# EAGLE library part 74*244A (library Digilent)
Octal Tri-State Buffer
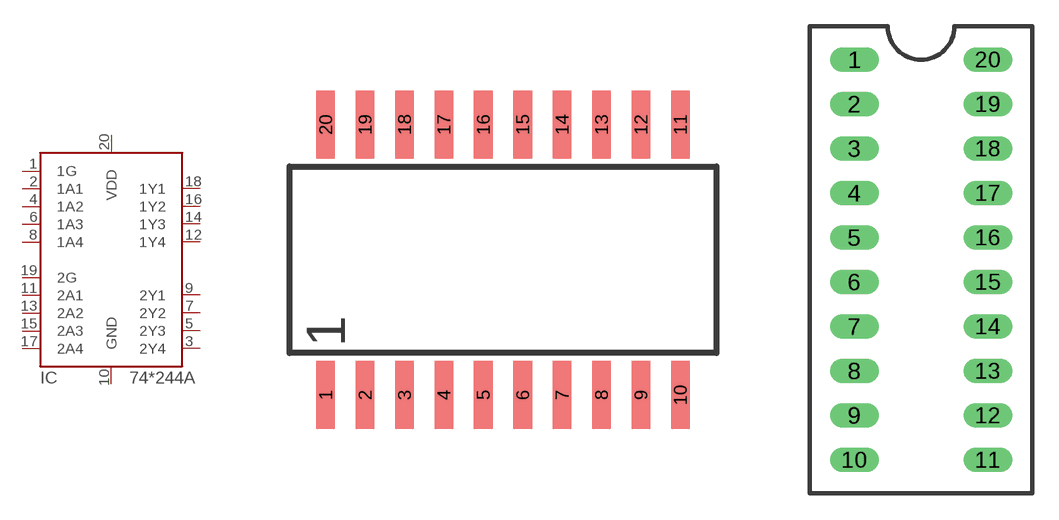
[diagram p26: symbol with the pads of SOIC; footprints SOIC, DIP-20]

Designator prefix IC

## 74HC244AFW  [SOIC]
1  1G  in
2  1A1  in
3  2Y4  out
4  1A2  in
5  2Y3  out
6  1A3  in
7  2Y2  out
8  1A4  in
9  2Y1  out
10  GND  pwr
11  2A1  in
12  1Y4  out
13  2A2  in
14  1Y3  out
15  2A3  in
16  1Y2  out
17  2A4  in
18  1Y1  out
19  2G  in
20  VDD  pwr

## 74244AP  [DIP-20]
Pads as for SOIC

## 74244APC  [DIP-20C]
Pads as for SOIC

## Footprint SOIC (pad centres in mm)
smd 0.6 x 2.2: 1 -5.715,-4.362; 2 -4.445,-4.362; 3 -3.175,-4.362; 4 -1.905,-4.362; 5 -0.635,-4.362; 6 0.635,-4.362; 7 1.905,-4.362; 8 3.175,-4.362; 9 4.445,-4.362; 10 5.715,-4.362; 11 5.715,4.362; 12 4.445,4.362; 13 3.175,4.362; 14 1.905,4.362; 15 0.635,4.362; 16 -0.635,4.362; 17 -1.905,4.362; 18 -3.175,4.362; 19 -4.445,4.362; 20 -5.715,4.362

## Footprint DIP-20 (pad centres in mm)
drill 0.889 long: 1 -3.81,11.43; 2 -3.81,8.89; 3 -3.81,6.35; 4 -3.81,3.81; 5 -3.81,1.27; 6 -3.81,-1.27; 7 -3.81,-3.81; 8 -3.81,-6.35; 9 -3.81,-8.89; 10 -3.81,-11.43; 11 3.81,-11.43; 12 3.81,-8.89; 13 3.81,-6.35; 14 3.81,-3.81; 15 3.81,-1.27; 16 3.81,1.27; 17 3.81,3.81; 18 3.81,6.35; 19 3.81,8.89; 20 3.81,11.43

## Footprint DIP-20C (pad centres in mm)
drill 0.889 square: 1 -3.81,11.43
drill 0.889 round: 2 -3.81,8.89; 3 -3.81,6.35; 4 -3.81,3.81; 5 -3.81,1.27; 6 -3.81,-1.27; 7 -3.81,-3.81; 8 -3.81,-6.35; 9 -3.81,-8.89; 10 -3.81,-11.43; 11 3.81,-11.43; 12 3.81,-8.89; 13 3.81,-6.35; 14 3.81,-3.81; 15 3.81,-1.27; 16 3.81,1.27; 17 3.81,3.81; 18 3.81,6.35; 19 3.81,8.89; 20 3.81,11.43